# EAGLE library part PULSE_ELECTRONICS-LAN_MAGNETICS-HX5008FNL (library Module_Inductors)
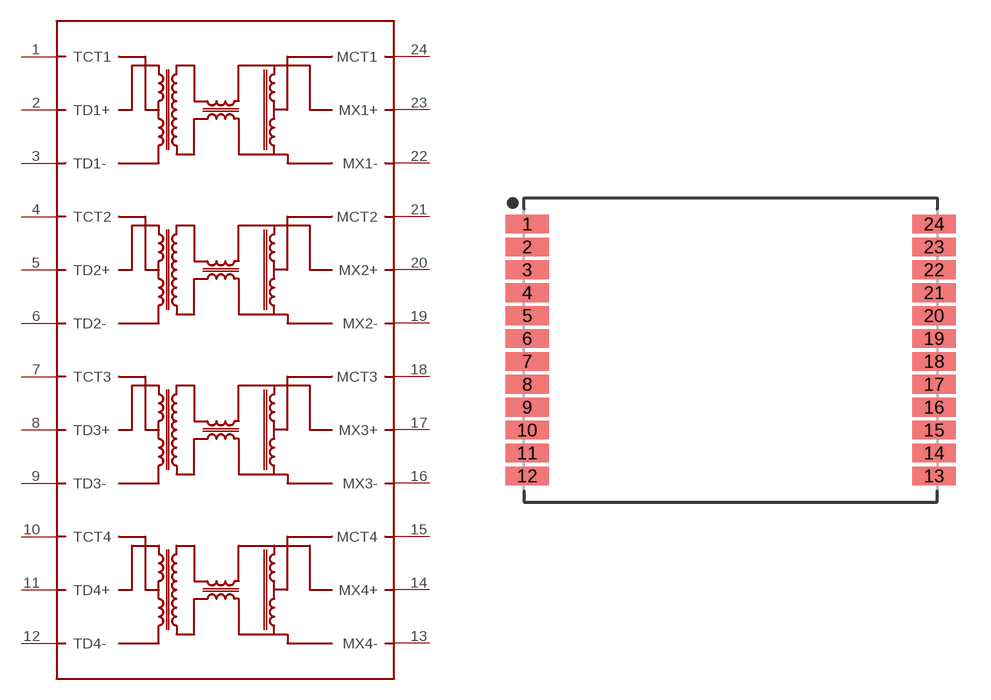
[diagram p3: symbol with the pads of PULSE_ELECTRONICS-LAN_MAGNETICS-HX5008FNL; footprint PULSE_ELECTRONICS-LAN_MAGNETICS-HX5008FNL]

Designator prefix U

## PULSE_ELECTRONICS-LAN_MAGNETICS-HX5008FNL  [PULSE_ELECTRONICS-LAN_MAGNETICS-HX5008FNL]
1  TCT1
2  TD1+
3  TD1-
4  TCT2
5  TD2+
6  TD2-
7  TCT3
8  TD3+
9  TD3-
10  TCT4
11  TD4+
12  TD4-
13  MX4-
14  MX4+
15  MCT4
16  MX3-
17  MX3+
18  MCT3
19  MX2-
20  MX2+
21  MCT2
22  MX1-
23  MX1+
24  MCT1

## Footprint PULSE_ELECTRONICS-LAN_MAGNETICS-HX5008FNL (pad centres in mm)
24-SOP, 0.99 mm pitch, 18.67 mm span, 13.16 X 17.86 X 6.12 mm body 24-pin SOP package with 0.99 mm pitch, 18.67 mm span with body size 13.16 X 17.86 X 6.12 mm
smd 1.882 x 0.812: 1 -8.8,5.445; 2 -8.8,4.455; 3 -8.8,3.465; 4 -8.8,2.475; 5 -8.8,1.485; 6 -8.8,0.495; 7 -8.8,-0.495; 8 -8.8,-1.485; 9 -8.8,-2.475; 10 -8.8,-3.465; 11 -8.8,-4.455; 12 -8.8,-5.445; 13 8.8,-5.445; 14 8.8,-4.455; 15 8.8,-3.465; 16 8.8,-2.475; 17 8.8,-1.485; 18 8.8,-0.495; 19 8.8,0.495; 20 8.8,1.485; 21 8.8,2.475; 22 8.8,3.465; 23 8.8,4.455; 24 8.8,5.445